# Altium schematic symbol library SCH - MCU - UHF-Radio-SAT2RF1-1B.SchLib: 1 symbol
Pins are listed as number, name and electrical type; pins without a type are passive.

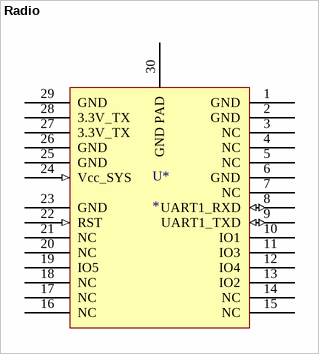
[diagram p0: symbol Radio]

## Radio
designator U*
pins: 1 GND (power), 2 GND (power), 3 NC, 4 NC, 5 NC, 6 GND (power), 7 NC, 8 UART1_RXD (io), 9 UART1_TXD (io), 10 IO1, 11 IO3, 12 IO4, 13 IO2, 14 NC, 15 NC, 16 NC, 17 NC, 18 NC, 19 IO5, 20 NC, 21 NC, 22 RST (in), 23 GND (power), 24 Vcc_SYS (in), 25 GND (power), 26 GND (power), 27 3.3V_TX, 28 3.3V_TX, 29 GND (power), 30 GND PAD